# Altium footprint library BatteryHolder.PcbLib: 1 footprints
Each footprint in its own frame and in the unit in brackets; x right, y up, seen from the top. Pads: shape width x height; smd on the part's side, far side on the other; paste and mask are expansions set on the pad; w line width, h text height; cw(c..) or ccw(c..) is an arc to the next point about the centre after c.
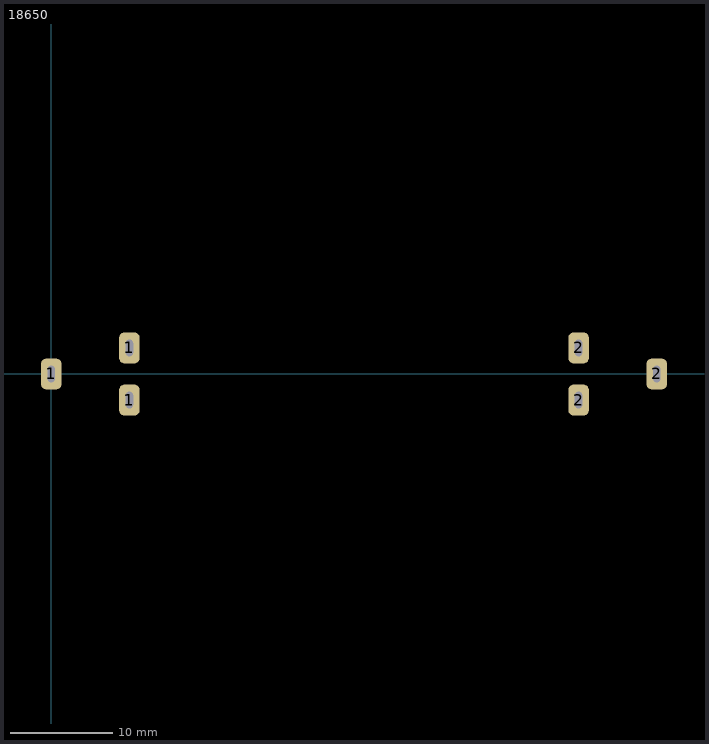
[diagram p0: the footprint, top view; thin cyan lines are the x and y axes]

## 18650 [mm] "18650 battery holder"
pads (6):
  rrect50% 2x3 hole 1.6 slot 0.7 at 0 deg: 1(0,0) 1(7.62,-2.54) 1(7.62,2.54) 2(51.38,-2.54) 2(51.38,2.54) 2(59,0)